# Altium schematic symbol library Schlib1.SchLib: 6 symbols
Pins are listed as number, name and electrical type; pins without a type are passive.

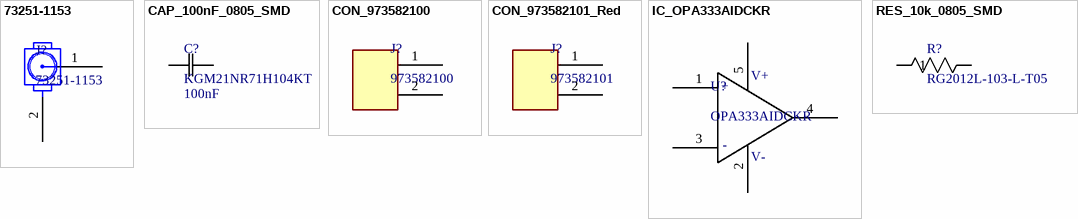
[diagram p0: symbols 73251-1153 to RES_10k_0805_SMD]

## 73251-1153
designator J?
SMA Connector; Manufacturer: Molex; Manufacturer Part Number: 73251-1153
footprint 73251-1153
pins: 1, 2

## CAP_100nF_0805_SMD
designator C?, comment KGM21NR71H104KT  value 100nF
CAP CER 100nF
footprint CAPC2012X88N
pins: 1, 2

## CON_973582100
designator J?, comment 973582100
Black Banana Connector; Manufacturer: Altech Corp; Manufacturer Number: 973582100
footprint CON_973582100_Black
pins: 1, 2

## CON_973582101_Red
designator J?, comment 973582101
Red Banana Connector; Manufacturer: Altech Corp; Manufacturer Number: 973582101
footprint CON_973582101_Red
pins: 1, 2

## IC_OPA333AIDCKR
designator U?, comment OPA333AIDCKR
OP Amp; Manufacturer: TI; Manufactucture Numer: OPA333AIDCKR
footprint SC70+5_0.95X0.4_0.65_SMD
pins: 1 +IN, 2 V-, 3 -IN, 4 OUT, 5 V+
text: +; -

## RES_10k_0805_SMD
designator R?, comment RG2012L-103-L-T05
Resistor 10k Ohm 0805 SMD
footprint RESC2012X65N
pins: 1, 2